# Altium schematic symbol library 528521270.SchLib: 1 symbol
Pins are listed as number, name and electrical type; pins without a type are passive.

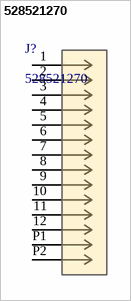
[diagram p0: symbol 528521270]

## 528521270
designator J?
Easy-On FFC/FPC Connector, 1.00mm Pitch, Surface Mount, Right-Angle, Non-ZIF, Bottom Contact Style, 12 Circuits; Manufacturer_Name: Molex Connector Corporation; Copyright: Copyright (C) 2025 Ultra Librarian. All rights reserved.; Manufacturer_Part_Number: 528521270; RefDes: RefDes; Type: Type
footprint 528521270
pins: 1, 2, 3, 4, 5, 6, 7, 8, 9, 10, 11, 12, P1, P2